# Altium footprint library C_0201.PCBLIB: 1 footprints
Each footprint in its own frame and in the unit in brackets; x right, y up, seen from the top. Pads: shape width x height; smd on the part's side, far side on the other; paste and mask are expansions set on the pad; w line width, h text height; cw(c..) or ccw(c..) is an arc to the next point about the centre after c.
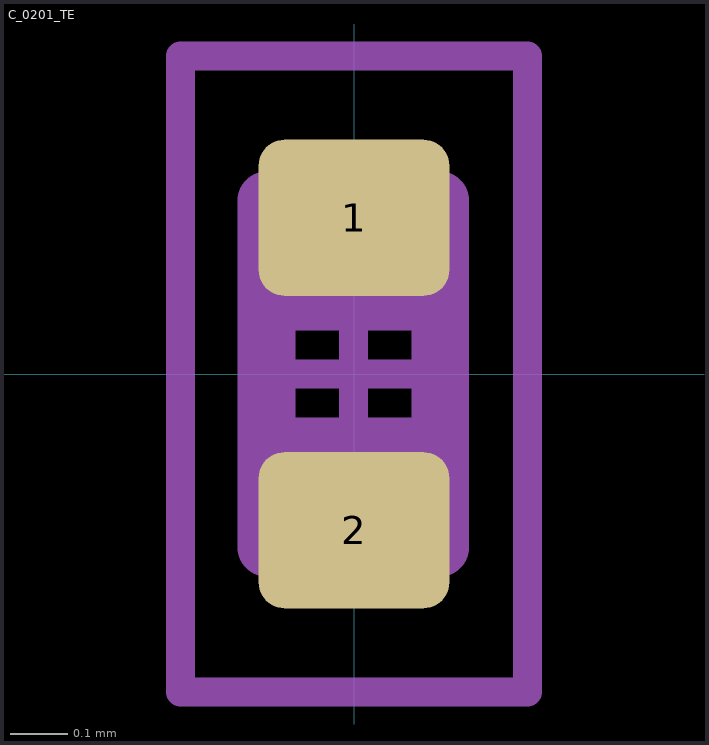
[diagram p0: the footprint, top view; thin cyan lines are the x and y axes]

## C_0201_TE [mm]
height 0.33
pads (2):
  rrect33% 0.33x0.27 smd: 1(0,0.27) 2(0,-0.27)
Top Assembly:
  lines w0.1: -0.151,-0.125 0.149,-0.125 ; -0.151,0.125 0.149,0.125 ; -0.151,-0.3 0.149,-0.3 0.149,0.3 -0.151,0.3 -0.151,-0.3
Top Courtyard:
  lines w0.05: -0.3,-0.55 0.3,-0.55 0.3,0.55 -0.3,0.55 -0.3,-0.55
Top Designator:
  text ".Designator" at 0.3,0.45 h0.7
Top Component Center:
  lines w0.05: -0.161,0 0.159,0 ; -0.001,-0.16 -0.001,0.16
3D body "User Library-SMD 0201 CAPACITOR.STEP": height 0.29, standoff -0.01, extent -0.15,-0.3 0.15,0.3